# Altium integrated library ATTINY10-TSHR.IntLib: 1 symbol
Pins are listed as number, name and electrical type; pins without a type are passive.

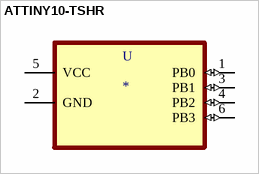
[diagram p0: symbol ATTINY10-TSHR]

## ATTINY10-TSHR
designator U
AVR AVRÂ® ATtiny Microcontroller IC 8-Bit 12MHz 1KB _512 x 16_ FLASH SOT-23-6; MF: Microchip; MP: ATTINY10-TSHR; Value: *; Package: SOT-23-6 Microchip; Digi-Key_Purchase_URL: https://www.digikey.es/product-detail/en/microchip-technology/ATTINY10-TSHR/ATTINY10-TSHRCT-ND/2136158?utm_source=snapeda&utm_medium=aggregator&utm_campaign=symbol; Digi-Key_Part_Number: ATTINY10-TSHRCT-ND; SnapEDA_Link: https://www.snapeda.com/parts/ATTINY10-TSHR/Microchip/view-part/905635/?ref=snap
footprint SOT95P280X145-6N
pins: 1 PB0 (io), 2 GND, 3 PB1 (io), 4 PB2 (io), 5 VCC (power), 6 PB3 (io)